# Altium footprint library ECS CSM-3X.PCBLIB: 1 footprints
Each footprint in its own frame and in the unit in brackets; x right, y up, seen from the top. Pads: shape width x height; smd on the part's side, far side on the other; paste and mask are expansions set on the pad; w line width, h text height; cw(c..) or ccw(c..) is an arc to the next point about the centre after c.
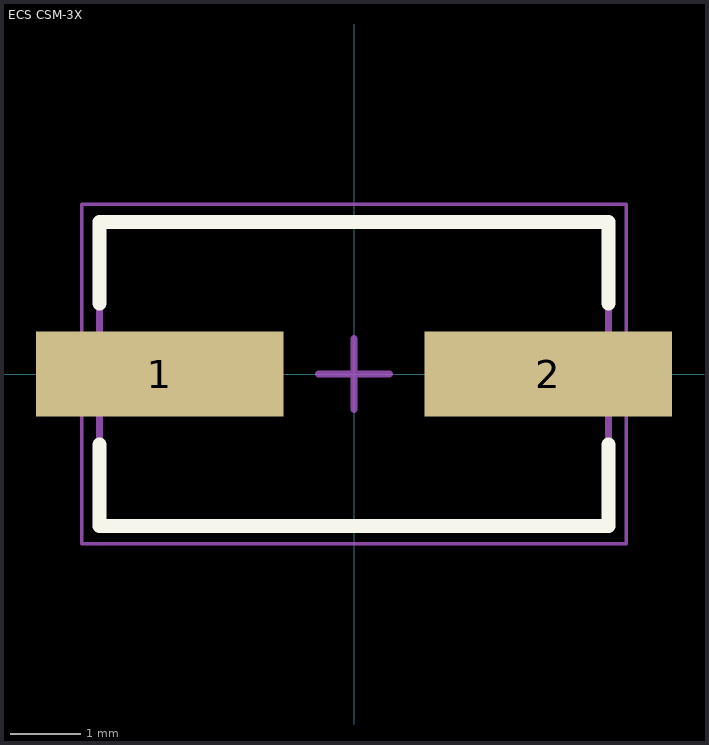
[diagram p0: the footprint, top view; thin cyan lines are the x and y axes]

## ECS CSM-3X [mm] "Crystal, 2-Leads, Body 4.10x7.00mm, Pitch 5.00mm, IPC Medium Density"
height 2.3
pads (2):
  rect 3.5x1.2 smd: 1(-2.75,0) 2(2.75,0)
Top Overlay:
  lines w0.2: -3.6,-1 -3.6,-2.15 3.6,-2.15 3.6,-1 ; -3.6,1 -3.6,2.15 3.6,2.15 3.6,1
Mechanical 13:
  lines w0.1: -3.6,-2.15 -3.6,2.15 3.6,2.15 3.6,-2.15 -3.6,-2.15
Mechanical 15:
  lines w0.05: -3.85,-2.4 -3.85,2.4 3.85,2.4 3.85,-2.4 -3.85,-2.4
  lines w0.1: -0.5,0 0.5,0 ; 0,-0.5 0,0.5
3D body "ECS CSM-3X.STEP": height 2.3, standoff 0, extent -3.8,-2.05 3.8,2.05